# EAGLE library part MC74HC157ADG (library PC-Engine)
Source: Datasheet <http://www.onsemi.com/pub/Collateral/MC74HC157A-D.PDF>
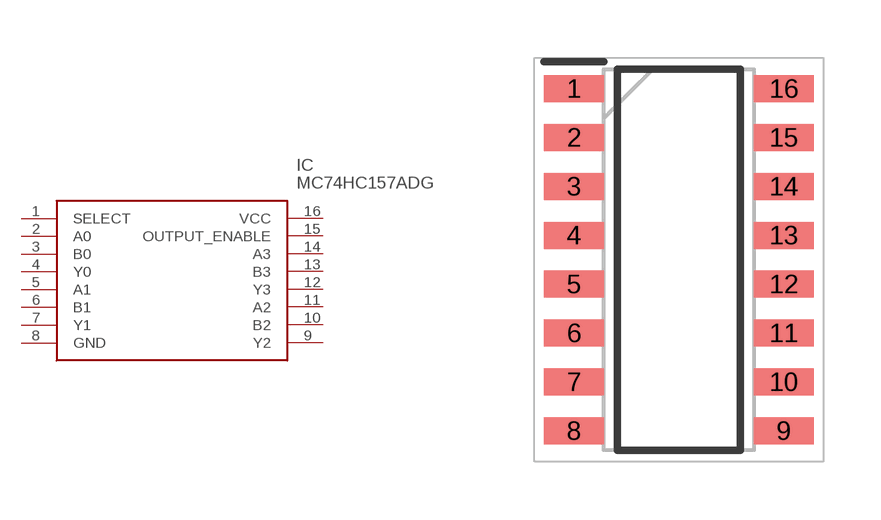
[diagram p5: symbol with the pads of SOIC127P600X175-16N; footprint SOIC127P600X175-16N]

Designator prefix IC

## MC74HC157ADG (ALLIED_NUMBER: 70466365; ALLIED_PRICE-STOCK: http://www.alliedelec.com/on-semiconductor-mc74hc157adg/70466365/; HEIGHT: 1.75mm; MANUFACTURER_NAME: ON Semiconductor; MANUFACTURER_PART_NUMBER: MC74HC157ADG; MOUSER_PART_NUMBER: 863-MC74HC157ADG; MOUSER_PRICE-STOCK: https://www.mouser.com/Search/Refine.aspx?Keyword=863-MC74HC157ADG; RS_PART_NUMBER: 8061422P; RS_PRICE-STOCK: http://uk.rs-online.com/web/p/products/8061422P)  [SOIC127P600X175-16N]
1  SELECT  in
2  A0  in
3  B0  in
4  Y0  out
5  A1  in
6  B1  in
7  Y1  out
8  GND  pwr
9  Y2  out
10  B2  in
11  A2  in
12  Y3  out
13  B3  in
14  A3  in
15  OUTPUT_ENABLE  in
16  VCC  pwr

## Footprint SOIC127P600X175-16N (pad centres in mm)
74HC163D,653
smd 1.55 x 0.7: 1 -2.725,4.445; 2 -2.725,3.175; 3 -2.725,1.905; 4 -2.725,0.635; 5 -2.725,-0.635; 6 -2.725,-1.905; 7 -2.725,-3.175; 8 -2.725,-4.445; 9 2.725,-4.445; 10 2.725,-3.175; 11 2.725,-1.905; 12 2.725,-0.635; 13 2.725,0.635; 14 2.725,1.905; 15 2.725,3.175; 16 2.725,4.445